# EAGLE library part MCP49X1 (library yapo)
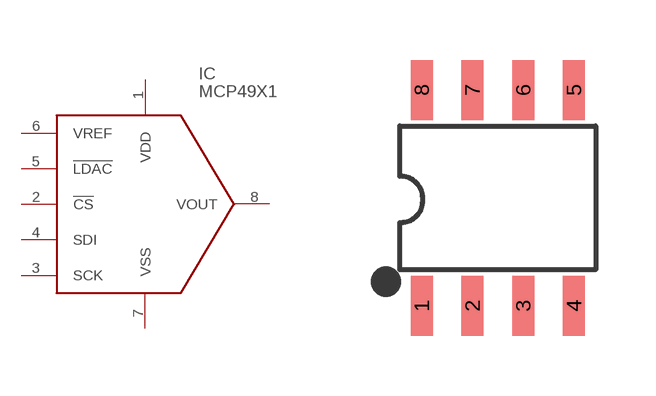
[diagram p62: symbol with the pads of SOIC8; footprint SOIC8]

Designator prefix IC

## MCP49X1  [SOIC8]
1  VDD
2  !CS!
3  SCK
4  SDI
5  !LDAC!
6  VREF
7  VSS
8  VOUT

## Footprint SOIC8 (pad centres in mm)
smd 0.55 x 1.5: 1 -1.905,-2.7; 2 -0.635,-2.7; 3 0.635,-2.7; 4 1.905,-2.7; 5 1.905,2.7; 6 0.635,2.7; 7 -0.635,2.7; 8 -1.905,2.7